# Altium footprint library Diode Schottky.PcbLib: 2 footprints
Each footprint in its own frame and in the unit in brackets; x right, y up, seen from the top. Pads: shape width x height; smd on the part's side, far side on the other; paste and mask are expansions set on the pad; w line width, h text height; cw(c..) or ccw(c..) is an arc to the next point about the centre after c.
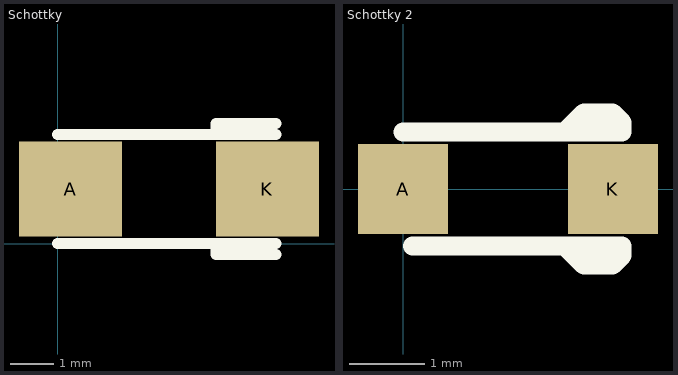
[diagram p0: the footprints below, top view; thin cyan lines are the x and y axes]

## Schottky [mm]
pads (2):
  rect 2.4x2.2 smd: A(0.3,1.27) K(4.88,1.27)
Top Overlay:
  lines w0.254: 0,0 5.08,0 ; 0,2.54 5.08,2.54 ; 3.683,0 3.683,-0.254 5.08,-0.254 ; 3.683,2.54 3.683,2.794 5.08,2.794

## Schottky 2 [mm]
pads (2):
  rect 1.2x1.2 smd: A(0,0) K(2.8,0)
Top Overlay:
  lines w0.254: 0,0.762 2.921,0.762 2.921,0.889 2.794,1.016 2.413,1.016 2.159,0.762 ; 0.127,-0.762 2.921,-0.762 2.921,-0.889 2.794,-1.016 2.413,-1.016 2.159,-0.762 2.286,-0.762